# EAGLE library part TPS22929D (library NicksParts)
Low resistance load switch
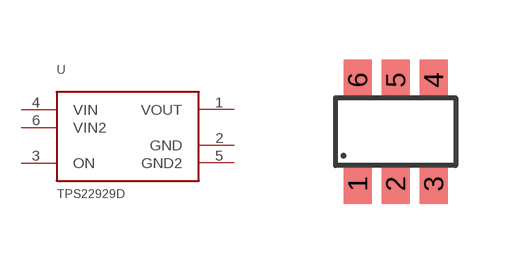
[diagram p25: symbol with the pads of SOT-23-6; footprint SOT-23-6]

Designator prefix U

## TPS22929D  [SOT-23-6]
1  VOUT
2  GND
3  ON
4  VIN
5  GND2
6  VIN2

## Footprint SOT-23-6 (pad centres in mm)
smd 0.7 x 1: 1 -0.95,-1.3; 2 0,-1.3; 3 0.95,-1.3; 4 0.95,1.3; 5 0,1.3; 6 -0.95,1.3